# Altium footprint library Slide, SPST - C&K, SDA01HxS.PcbLib: 1 footprints
Each footprint in its own frame and in the unit in brackets; x right, y up, seen from the top. Pads: shape width x height; smd on the part's side, far side on the other; paste and mask are expansions set on the pad; w line width, h text height; cw(c..) or ccw(c..) is an arc to the next point about the centre after c.
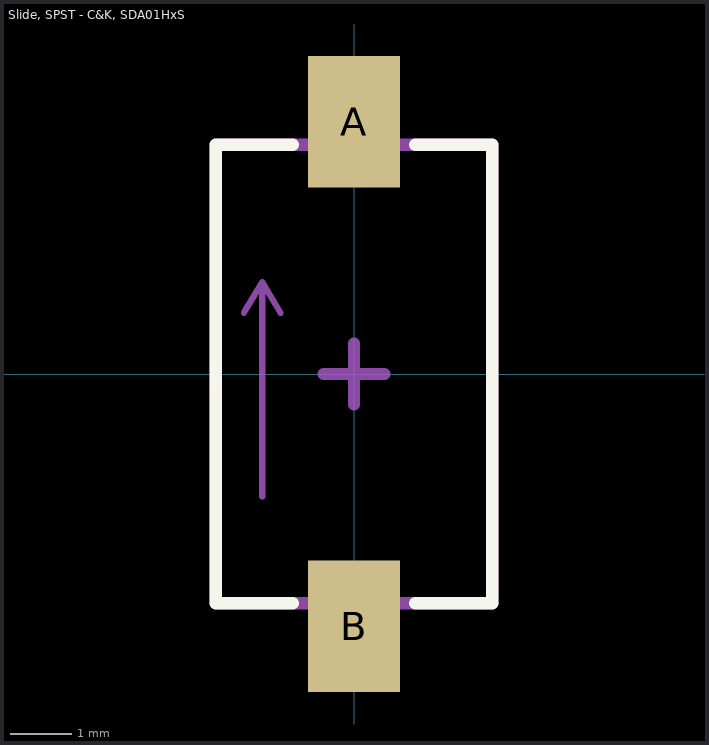
[diagram p0: the footprint, top view; thin cyan lines are the x and y axes]

## Slide, SPST - C&K, SDA01HxS [mm] "Slide, SPST - C&K, SDA01HxS"
height 4.45
pads (2):
  rect 1.5x2.15 smd mask+0.05: A(0,4.125) B(0,-4.125)
Top Overlay:
  lines w0.2: -1,-3.745 -2.26,-3.745 -2.26,3.745 -1,3.745 ; 1,-3.745 2.26,-3.745 2.26,3.745 1,3.745
Top Assembly:
  lines w0.1: -1.8,1 -1.5,1.5 ; -1.5,-2 -1.5,1.5 ; -1.2,1 -1.5,1.5
  lines w0.2: -2.26,-3.745 2.26,-3.745 2.26,3.745 -2.26,3.745 -2.26,-3.745
  text "ON" at -1.224,2.021 h2
Top Designator:
  text ".Designator" at -2,-3.218 h1.5
Top Component Center:
  lines w0.2: -0.5,0 0.5,0 ; 0,-0.5 0,0.5
3D body "Slide, SPST - C&K, SDA01HxS.STEP": height 5.44, standoff 0, extent -2.261,-4.648 2.261,4.648